# EAGLE library part MBED-TEMP (library mbed-microcontroller)
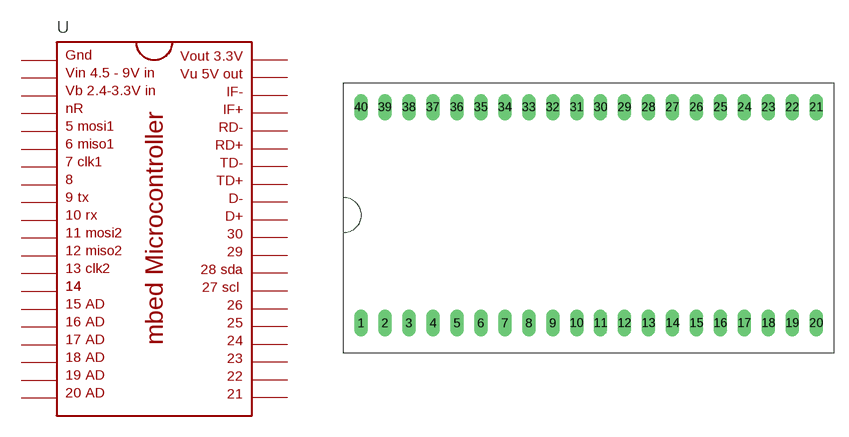
[diagram p2: symbol with the pads of DIL40_RED; footprint DIL40_RED]

Designator prefix -

## MBED-TEMP  [DIL40_RED]
1  P$1
2  P$2
3  P$3
4  P$4
5  P$5
6  P$6
7  P$7
8  P$8
9  P$9
10  P$10
11  P$11
12  P$12
13  P$13
14  P$14
15  P$15
16  P$16
17  P$17
18  P$18
19  P$19
20  P$20
21  P$21
22  P$22
23  P$23
24  P$24
25  P$25
26  P$26
27  P$27
28  P$28
29  P$29
30  P$30
31  P$31
32  P$32
33  P$33
34  P$34
35  P$35
36  P$36
37  P$37
38  P$38
39  P$39
40  P$40

## Footprint DIL40_RED (pad centres in mm)
drill 0.9 pad 1.27 long: 1 -24.13,-11.43; 2 -21.59,-11.43; 3 -19.05,-11.43; 4 -16.51,-11.43; 5 -13.97,-11.43; 6 -11.43,-11.43; 7 -8.89,-11.43; 8 -6.35,-11.43; 9 -3.81,-11.43; 10 -1.27,-11.43; 11 1.27,-11.43; 12 3.81,-11.43; 13 6.35,-11.43; 14 8.89,-11.43; 15 11.43,-11.43; 16 13.97,-11.43; 17 16.51,-11.43; 18 19.05,-11.43; 19 21.59,-11.43; 20 24.13,-11.43; 21 24.13,11.43; 22 21.59,11.43; 23 19.05,11.43; 24 16.51,11.43; 25 13.97,11.43; 26 11.43,11.43; 27 8.89,11.43; 28 6.35,11.43; 29 3.81,11.43; 30 1.27,11.43; 31 -1.27,11.43; 32 -3.81,11.43; 33 -6.35,11.43; 34 -8.89,11.43; 35 -11.43,11.43; 36 -13.97,11.43; 37 -16.51,11.43; 38 -19.05,11.43; 39 -21.59,11.43; 40 -24.13,11.43